# Altium schematic symbol library C0603.SchLib: 35 symbols
Pins are listed as number, name and electrical type; pins without a type are passive.

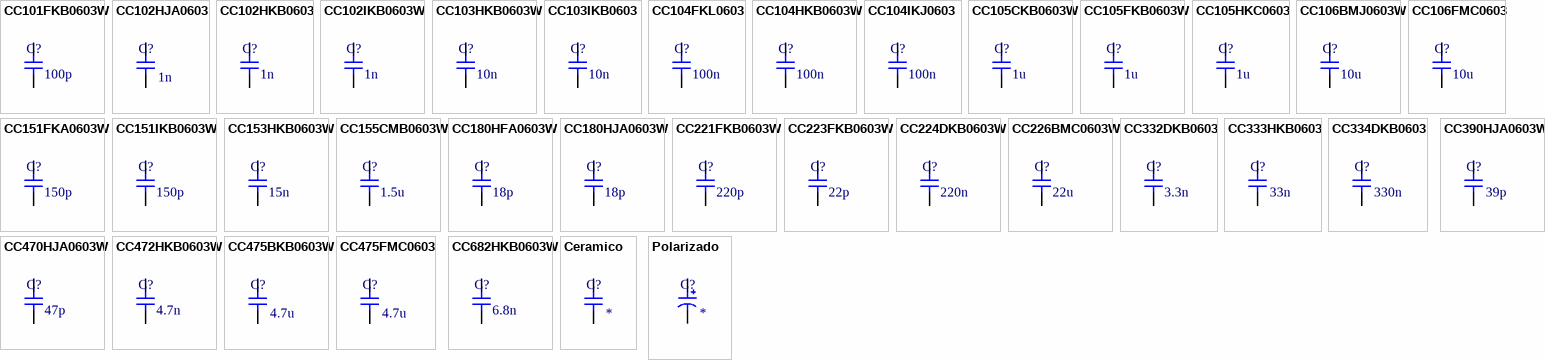
[diagram p0: symbols CC101FKB0603W to Polarizado]

## CC101FKB0603W
designator C?  value 100p
100 pF ±10% 25V Ceramic Capacitor X7R 0603 (1608 Metric); Manufacturer Part Number: 06033C101KAT2A; Manufacturer: AVX Corporation; Working Temperature: -55°C ~ 125°C; Short Description: CAP CER 100PF 25V X7R 0603; Power: NC; Ratings: REACH, ROHS3; Type: MLCC; Temperature Coefficient: X7R; Mounting: SMT; Frequency: NC; Alternate Part Number 1: *; Alternate Part Number 2: *; Tolerance: ±10%; Current: NC; Revision Date: 02/08/21; Package Reference: 0603; Voltage: 25V
footprint C0603 (Footprint not found)
pins: 1, 2

## CC102HJA0603
designator C?  value 1n
1 nF ±5% 50V Ceramic Capacitor C0G, NP0 0603 (1608 Metric); Manufacturer Part Number: CL10C102JB81PNC; Manufacturer: Samsung Electro-Mechanics; Working Temperature: -55°C ~ 125°C; Short Description: CAP CER 1000PF 50V C0G/NP0 0603; Power: NC; Type: MLCC; Temperature Coefficient: C0G, NP0; Mounting: SMT; Ratings: AEC-Q200; Frequency: NC; Alternate Part Number 1: *; Alternate Part Number 2: *; Tolerance: ±5%; Current: NC; Revision Date: 17/09/21; Package Reference: 0603; Voltage: 50V
footprint C0603 (Footprint not found)
pins: 1, 2

## CC102HKB0603
designator C?  value 1n
1 nF ±10% 50V Ceramic Capacitor X7R 0603 (1608 Metric); Manufacturer Part Number: GCM188R71H102KA37D; Manufacturer: Murata Electronics; Working Temperature: -55°C ~ 125°C; Short Description: CAP CER 1000PF 50V X7R 0603; Power: NC; Ratings: REACH, ROHS3, AEC-Q200; Type: MLCC; Temperature Coefficient: X7R; Mounting: SMT; Frequency: NC; Alternate Part Number 1: *; Alternate Part Number 2: *; Tolerance: ±10%; Current: NC; Revision Date: 02/08/21; Package Reference: 0603; Voltage: 50V
footprint C0603 (Footprint not found)
pins: 1, 2

## CC102IKB0603W
designator C?  value 1n
1 nF ±10% 100V Ceramic Capacitor X7R 0603 (1608 Metric); Manufacturer Part Number: CL10B102KC8NNNC; Manufacturer: Samsung Electro-Mechanics; Working Temperature: -55°C ~ 125°C; Short Description: CAP CER 1000PF 100V X7R 0603; Power: NC; Ratings: REACH, ROHS3; Type: MLCC; Temperature Coefficient: X7R; Mounting: SMT; Frequency: NC; Alternate Part Number 1: *; Alternate Part Number 2: *; Tolerance: ±10%; Current: NC; Revision Date: 02/08/21; Package Reference: 0603; Voltage: 100V
footprint C0603 (Footprint not found)
pins: 1, 2

## CC103HKB0603W
designator C?  value 10n
10 nF ±10% 50V Ceramic Capacitor X7R 0603 (1608 Metric); Manufacturer Part Number: C0603C103K5RACTU; Manufacturer: KEMET; Working Temperature: -55°C ~ 125°C; Short Description: CAP CER 10000PF 50V X7R 0603; Power: NC; Ratings: REACH, ROHS3; Type: MLCC; Temperature Coefficient: X7R; Mounting: SMT; Frequency: NC; Alternate Part Number 1: *; Alternate Part Number 2: *; Tolerance: ±10%; Current: NC; Revision Date: 02/08/21; Package Reference: 0603; Voltage: 50V
footprint C0603 (Footprint not found)
pins: 1, 2

## CC103IKB0603
designator C?  value 10n
10 nF ±10% 100V Ceramic Capacitor X7R 0603 (1608 Metric); Manufacturer Part Number: CGA3E2X7R2A103K080AA; Manufacturer: TDK Corporation; Working Temperature: -55°C ~ 125°C; Short Description: CAP CER 10000PF 100V X7R 0603; Power: NC; Ratings: REACH, ROHS3; Type: MLCC; Temperature Coefficient: X7R; Mounting: SMT; Frequency: NC; Alternate Part Number 1: *; Alternate Part Number 2: *; Tolerance: ±10%; Current: NC; Revision Date: 02/08/21; Package Reference: 0603; Voltage: 100V
footprint C0603 (Footprint not found)
pins: 1, 2

## CC104FKL0603
designator C?  value 100n  (hidden comment: CC104FKL0603)
100 nF ±10% 25V Ceramic Capacitor X8R 0603 (1608 Metric); Manufacturer Part Number: C1608X8R1E104K080AA; Manufacturer: TDK Corporation; Working Temperature: -55°C ~ 150°C; Short Description: CAP CER 0.1UF 25V X8R 0603; Power: NC; Ratings: REACH, ROHS3; Type: MLCC; Voltage: 50V; Temperature Coefficient: X8R; Mounting: SMT; Frequency: NC; Alternate Part Number 1: *; Alternate Part Number 2: *; Tolerance: ±10%; Current: NC; Revision Date: 02/08/21; Package Reference: 0603
footprint C0603
pins: 1, 2

## CC104HKB0603W
designator C?  value 100n
100 nF ±10% 50V Ceramic Capacitor X7R 0603 (1608 Metric); Manufacturer Part Number: C0603C104K5RACTU; Manufacturer: KEMET; Working Temperature: -55°C ~ 125°C; Short Description: CAP CER 0.1UF 50V X7R 0603; Power: NC; Ratings: REACH, ROHS3; Type: MLCC; Temperature Coefficient: X7R; Mounting: SMT; Frequency: NC; Alternate Part Number 1: *; Alternate Part Number 2: *; Tolerance: ±10%; Current: NC; Revision Date: 02/08/21; Package Reference: 0603; Voltage: 50V
footprint C0603 (Footprint not found)
pins: 1, 2

## CC104IKJ0603
designator C?  value 100n
100 nF ±10% 100V Ceramic Capacitor X7S 0603 (1608 Metric); Manufacturer Part Number: CGA3E3X7S2A104K080AB; Manufacturer: TDK Corporation; Working Temperature: -55°C ~ 125°C; Short Description: CAP CER 0.1UF 100V X7S 0603; Power: NC; Ratings: REACH, ROHS3, AEC-Q200; Type: MLCC; Temperature Coefficient: X7S; Mounting: SMT; Frequency: NC; Alternate Part Number 1: *; Alternate Part Number 2: *; Tolerance: ±10%; Current: NC; Revision Date: 02/08/21; Package Reference: 0603; Voltage: 100V
footprint C0603 (Footprint not found)
pins: 1, 2

## CC105CKB0603W
designator C?  value 1u
1 µF ±10% 10V Ceramic Capacitor X7R 0603 (1608 Metric); Manufacturer Part Number: LMK107B7105KA-T; Alternate Part Number 2: CL10B105KP8NNNC; Manufacturer: Taiyo Yuden; Working Temperature: -55°C ~ 125°C; Short Description: CAP CER 1UF 10V X7R 0603; Power: NC; Ratings: REACH, ROHS3; Type: MLCC; Temperature Coefficient: X7R; Mounting: SMT; Frequency: NC; Alternate Part Number 1: *; Tolerance: ±10%; Current: NC; Revision Date: 12/11/21; Package Reference: 0603; Voltage: 10V
footprint C0603 (Footprint not found)
pins: 1, 2

## CC105FKB0603W
designator C?  value 1u
1 µF ±10% 25V Ceramic Capacitor X7R 0603 (1608 Metric); Manufacturer Part Number: C0603C105K3RACTU; Manufacturer: KEMET; Working Temperature: -55°C ~ 125°C; Short Description: CAP CER 1UF 25V X7R 0603; Power: NC; Ratings: REACH, ROHS3; Type: MLCC; Temperature Coefficient: X7R; Mounting: SMT; Frequency: NC; Alternate Part Number 1: *; Alternate Part Number 2: *; Tolerance: ±10%; Current: NC; Revision Date: 02/08/21; Package Reference: 0603; Voltage: 25V
footprint C0603 (Footprint not found)
pins: 1, 2

## CC105HKC0603
designator C?  value 1u
1 µF ±10% 50V Ceramic Capacitor X5R 0603 (1608 Metric); Manufacturer Part Number: CGA3E3X5R1H105K080AB; Manufacturer: TDK Corporation; Working Temperature: -55°C ~ 85°C; Short Description: CAP CER 1UF 50V X5R 0603; Power: NC; Ratings: REACH, ROHS3, AEC-Q200; Type: MLCC; Temperature Coefficient: X5R; Mounting: SMT; Frequency: NC; Alternate Part Number 1: *; Alternate Part Number 2: *; Tolerance: ±10%; Current: NC; Revision Date: 02/08/21; Package Reference: 0603; Voltage: 50V
footprint C0603 (Footprint not found)
pins: 1, 2

## CC106BMJ0603W
designator C?  value 10u
10 µF ±20% 6.3V Ceramic Capacitor X7S 0603 (1608 Metric); Manufacturer Part Number: C1608X7S0J106M080AC; Manufacturer: TDK Corporation; Working Temperature: -55°C ~ 125°C; Short Description: CAP CER 10UF 6.3V X7S 0603; Power: NC; Ratings: REACH, ROHS3; Type: MLCC; Temperature Coefficient: X7S; Mounting: SMT; Frequency: NC; Alternate Part Number 1: *; Alternate Part Number 2: *; Tolerance: ±20%; Current: NC; Revision Date: 02/08/21; Package Reference: 0603; Voltage: 6.3V
footprint C0603 (Footprint not found)
pins: 1, 2

## CC106FMC0603
designator C?  value 10u
10 µF ±20% 25V Ceramic Capacitor X5R 0603 (1608 Metric); Manufacturer Part Number: GRT188R61E106ME13D; Manufacturer: Murata Electronics; Working Temperature: -55°C ~ 85°C; Short Description: CAP CER 10UF 25V X5R 0603; Power: NC; Ratings: AEC-Q200, ROHS3; Type: MLCC; Temperature Coefficient: X5R; Mounting: SMT; Frequency: NC; Alternate Part Number 1: *; Alternate Part Number 2: *; Tolerance: ±20%; Current: NC; Revision Date: 18/04/23; Package Reference: 0603; Voltage: 25V
footprint C0603 (Footprint not found)
pins: 1, 2

## CC151FKA0603W
designator C?  value 150p
150 pF ±10% 25V Ceramic Capacitor C0G, NP0 0603 (1608 Metric); Manufacturer Part Number: C0603C151K3GACTU; Manufacturer: KEMET; Working Temperature: -55°C ~ 125°C; Temperature Coefficient: C0G/NP0; Short Description: CAP CER 150PF 25V C0G/NP0 0603; Power: NC; Ratings: REACH, ROHS3; Type: MLCC; Mounting: SMT; Frequency: NC; Alternate Part Number 1: *; Alternate Part Number 2: *; Tolerance: ±10%; Current: NC; Revision Date: 02/08/21; Package Reference: 0603; Voltage: 25V
footprint C0603 (Footprint not found)
pins: 1, 2

## CC151IKB0603W
designator C?  value 150p  (hidden comment: CC151IKB0603W)
150 pF ±10% 100V Ceramic Capacitor X7R 0603 (1608 Metric); Manufacturer Part Number: 885012206103; Manufacturer: Würth Elektronik; Working Temperature: -55°C ~ 125°C; Temperature Coefficient: C0G/NP0; Short Description: CAP CER 150PF 100V X7R 0603; Power: NC; Ratings: REACH, ROHS3; Type: MLCC; Mounting: SMT; Frequency: NC; Alternate Part Number 1: *; Alternate Part Number 2: *; Tolerance: ±10%; Current: NC; Revision Date: 02/08/21; Package Reference: 0603; Voltage: 100V
footprint C0603
pins: 1, 2

## CC153HKB0603W
designator C?  value 15n
15 nF ±10% 50V Ceramic Capacitor X7R 0603 (1608 Metric); Manufacturer Part Number: CL10B153KB8NNNC; Manufacturer: Samsung Electro-Mechanics; Working Temperature: -55°C ~ 125°C; Short Description: CAP CER 0.015UF 50V X7R 0603; Power: NC; Ratings: REACH, ROHS3; Type: MLCC; Temperature Coefficient: X7R; Mounting: SMT; Frequency: NC; Alternate Part Number 1: *; Alternate Part Number 2: *; Tolerance: ±10%; Current: NC; Revision Date: 02/08/21; Package Reference: 0603; Voltage: 50V
footprint C0603 (Footprint not found)
pins: 1, 2

## CC155CMB0603W
designator C?  value 1.5u
1.5 µF ±20% 10V Ceramic Capacitor X7R 0603 (1608 Metric); Manufacturer Part Number: C1608X7R1A155M080AC; Manufacturer: TDK Corporation; Working Temperature: -55°C ~ 125°C; Short Description: CAP CER 1.5UF 10V X7R 0603; Power: NC; Ratings: REACH, ROHS3; Type: MLCC; Temperature Coefficient: X7R; Mounting: SMT; Frequency: NC; Alternate Part Number 1: *; Alternate Part Number 2: *; Tolerance: ±20%; Current: NC; Revision Date: 02/08/21; Package Reference: 0603; Voltage: 10V
footprint C0603 (Footprint not found)
pins: 1, 2

## CC180HFA0603W
designator C?  value 18p
18 pF ±1% 50V Ceramic Capacitor C0G, NP0 0603 (1608 Metric); Manufacturer Part Number: CL10C180FB8NNNC; Manufacturer: Samsung Electro-Mechanics; Working Temperature: -55°C ~ 125°C; Temperature Coefficient: C0G/NP0; Short Description: CAP CER 18PF 50V C0G/NP0 0603; Power: NC; Ratings: REACH, ROHS3; Type: MLCC; Mounting: SMT; Frequency: NC; Alternate Part Number 1: *; Alternate Part Number 2: *; Tolerance: ±1%; Current: NC; Revision Date: 02/08/21; Package Reference: 0603; Voltage: 50V
footprint C0603 (Footprint not found)
pins: 1, 2

## CC180HJA0603W
designator C?  value 18p
18 pF ±5% 50V Ceramic Capacitor C0G, NP0 0603 (1608 Metric); Manufacturer Part Number: C0603C180J5GACTU; Manufacturer: KEMET; Working Temperature: -55°C ~ 125°C; Temperature Coefficient: C0G/NP0; Short Description: CAP CER 18PF 50V C0G/NP0 0603; Power: NC; Ratings: REACH, ROHS3; Type: MLCC; Mounting: SMT; Frequency: NC; Alternate Part Number 1: *; Alternate Part Number 2: *; Tolerance: ±5%; Current: NC; Revision Date: 02/08/21; Package Reference: 0603; Voltage: 50V
footprint C0603 (Footprint not found)
pins: 1, 2

## CC221FKB0603W
designator C?  value 220p
220 pF ±10% 25V Ceramic Capacitor X7R 0603 (1608 Metric); Manufacturer Part Number: C0603C221K3RACTU; Manufacturer: KEMET; Working Temperature: -55°C ~ 125°C; Short Description: CAP CER 220PF 25V X7R 0603; Power: NC; Ratings: REACH, ROHS3; Type: MLCC; Temperature Coefficient: X7R; Mounting: SMT; Frequency: NC; Alternate Part Number 1: *; Alternate Part Number 2: *; Tolerance: ±10%; Current: NC; Revision Date: 02/08/21; Package Reference: 0603; Voltage: 25V
footprint C0603 (Footprint not found)
pins: 1, 2

## CC223FKB0603W
designator C?  value 22p
0.022 µF ±10% 25V Ceramic Capacitor X7R 0603 (1608 Metric); Manufacturer Part Number: ECJ-1VB1E223K; Alternate Part Number 1: C0603C223K3RAC; Manufacturer: Panasonic Electronic Components; Working Temperature: -55°C ~ 125°C; Short Description: CAP CER 0.022UF 25V X7R 0603; Power: NC; Temperature Coefficient: X7R; Mounting: SMT; Ratings: -; Frequency: NC; Alternate Part Number 2: *; Tolerance: ±10%; Current: NC; Revision Date: 07/11/22; Package Reference: 0603; Voltage: 25V
footprint C0603 (Footprint not found)
pins: 1, 2

## CC224DKB0603W
designator C?  value 220n
220 nF ±10% 16V Ceramic Capacitor X7R 0603 (1608 Metric); Manufacturer Part Number: C1608X7R1C224K080AC; Manufacturer: TDK Corporation; Working Temperature: -55°C ~ 125°C; Short Description: CAP CER 0.22UF 16V X7R 0603; Power: NC; Ratings: REACH, ROHS3; Type: MLCC; Temperature Coefficient: X7R; Mounting: SMT; Frequency: NC; Alternate Part Number 1: *; Alternate Part Number 2: *; Tolerance: ±10%; Current: NC; Revision Date: 02/08/21; Package Reference: 0603; Voltage: 16V
footprint C0603 (Footprint not found)
pins: 1, 2

## CC226BMC0603W
designator C?  value 22u
22 µF ±20% 6.3V Ceramic Capacitor X5R 0603 (1608 Metric); Manufacturer Part Number: C1608X5R0J226M080AC; Manufacturer: TDK Corporation; Working Temperature: -55°C ~ 85°C; Short Description: CAP CER 22UF 6.3V X5R 0603; Power: NC; Ratings: REACH, ROHS3; Type: MLCC; Temperature Coefficient: X5R; Mounting: SMT; Frequency: NC; Alternate Part Number 1: *; Alternate Part Number 2: *; Tolerance: ±20%; Current: NC; Revision Date: 02/08/21; Package Reference: 0603; Voltage: 6.3V
footprint C0603 (Footprint not found)
pins: 1, 2

## CC332DKB0603
designator C?  value 3.3n
3.3 nF ±10% 16V Ceramic Capacitor X7R 0603 (1608 Metric); Manufacturer Part Number: C0603C332K4RACAUTO; Manufacturer: KEMET; Working Temperature: -55°C ~ 125°C; Short Description: CAP CER 3300PF 16V X7R 0603; Power: NC; Ratings: REACH, ROHS3, AEC-Q200; Type: MLCC; Temperature Coefficient: X7R; Mounting: SMT; Frequency: NC; Alternate Part Number 1: *; Alternate Part Number 2: *; Tolerance: ±10%; Current: NC; Revision Date: 02/08/21; Package Reference: 0603; Voltage: 16V
footprint C0603 (Footprint not found)
pins: 1, 2

## CC333HKB0603
designator C?  value 33n
33 nF ±10% 50V Ceramic Capacitor X7R 0603 (1608 Metric); Manufacturer Part Number: GCM188R71H333KA55D; Manufacturer: Murata Electronics; Working Temperature: -55°C ~ 125°C; Short Description: CAP CER 0.033UF 50V X7R 0603; Power: NC; Ratings: REACH, ROHS3, AEC-Q200; Type: MLCC; Temperature Coefficient: X7R; Mounting: SMT; Frequency: NC; Alternate Part Number 1: *; Alternate Part Number 2: *; Tolerance: ±10%; Current: NC; Revision Date: 02/08/21; Package Reference: 0603; Voltage: 50V
footprint C0603 (Footprint not found)
pins: 1, 2

## CC334DKB0603
designator C?  value 330n
330 nF ±10% 16V Ceramic Capacitor X7R 0603 (1608 Metric); Manufacturer Part Number: CGA3E1X7R1C334K; Manufacturer: TDK Corporation; Working Temperature: -55°C ~ 125°C; Short Description: CAP CER 0.33UF 16V X7R 0603; Power: NC; Ratings: REACH, ROHS3, AEC-Q200; Type: MLCC; Temperature Coefficient: X7R; Mounting: SMT; Frequency: NC; Alternate Part Number 1: *; Alternate Part Number 2: *; Tolerance: ±10%; Current: NC; Revision Date: 02/08/21; Package Reference: 0603; Voltage: 16V
footprint C0603 (Footprint not found)
pins: 1, 2

## CC390HJA0603W
designator C?  value 39p
39 pF ±5% 50V Ceramic Capacitor C0G, NP0 0603 (1608 Metric); Manufacturer Part Number: C0603C390J5GACTU; Manufacturer: KEMET; Working Temperature: -55°C ~ 125°C; Temperature Coefficient: C0G/NP0; Short Description: CAP CER 39PF 50V C0G/NP0 0603; Power: NC; Ratings: REACH, ROHS3, AEC-Q200; Type: MLCC; Mounting: SMT; Frequency: NC; Alternate Part Number 1: *; Alternate Part Number 2: *; Tolerance: ±5%; Current: NC; Revision Date: 02/08/21; Package Reference: 0603; Voltage: 50V
footprint C0603 (Footprint not found)
pins: 1, 2

## CC470HJA0603W
designator C?  value 47p
47 pF ±5% 50V Ceramic Capacitor C0G, NP0 0603 (1608 Metric); Manufacturer Part Number: GRM1885C1H470JA01D; Manufacturer: Murata Electronics; Working Temperature: -55°C ~ 125°C; Temperature Coefficient: C0G/NP0; Short Description: CAP CER 47PF 50V C0G/NP0 0603; Power: NC; Ratings: REACH, ROHS3; Type: MLCC; Mounting: SMT; Frequency: NC; Alternate Part Number 1: *; Alternate Part Number 2: *; Tolerance: ±5%; Current: NC; Revision Date: 02/08/21; Package Reference: 0603; Voltage: 50V
footprint C0603 (Footprint not found)
pins: 1, 2

## CC472HKB0603W
designator C?  value 4.7n
4.7 nF ±10% 50V Ceramic Capacitor X7R 0603 (1608 Metric); Manufacturer Part Number: C0603C472K5RACTU; Manufacturer: KEMET; Working Temperature: -55°C ~ 125°C; Short Description: CAP CER 4700PF 50V X7R 0603; Power: NC; Ratings: REACH, ROHS3; Type: MLCC; Temperature Coefficient: X7R; Mounting: SMT; Frequency: NC; Alternate Part Number 1: *; Alternate Part Number 2: *; Tolerance: ±10%; Current: NC; Revision Date: 02/08/21; Package Reference: 0603; Voltage: 50V
footprint C0603 (Footprint not found)
pins: 1, 2

## CC475BKB0603W
designator C?  value 4.7u
4.7 µF ±10% 6.3V Ceramic Capacitor X7R 0603 (1608 Metric); Manufacturer Part Number: CL10B475KQ8NQNC; Manufacturer: Samsung Electro-Mechanics; Working Temperature: -55°C ~ 125°C; Short Description: CAP CER 4.7UF 6.3V X7R 0603; Power: NC; Ratings: REACH, ROHS3; Type: MLCC; Temperature Coefficient: X7R; Mounting: SMT; Frequency: NC; Alternate Part Number 1: *; Alternate Part Number 2: *; Tolerance: ±10%; Current: NC; Revision Date: 02/08/21; Package Reference: 0603; Voltage: 6.3V
footprint C0603 (Footprint not found)
pins: 1, 2

## CC475FMC0603
designator C?  value 4.7u
4.7 µF ±10% 25V Ceramic Capacitor X5R 0603 (1608 Metric); Manufacturer Part Number: GRT188R61E475KE13D; Manufacturer: Murata Electronics; Working Temperature: -55°C ~ 85°C; Temperature Coefficient: X7R; Short Description: CAP CER 4.7UF 25V X5R 0603; Power: NC; Ratings: AEC-Q200, ROHS3; Type: MLCC; Mounting: SMT; Frequency: NC; Alternate Part Number 1: *; Alternate Part Number 2: *; Tolerance: ±10%; Current: NC; Revision Date: 18/04/23; Package Reference: 0603; Voltage: 25V
footprint C0603 (Footprint not found)
pins: 1, 2

## CC682HKB0603W
designator C?  value 6.8n
6.8 nF ±10% 50V Ceramic Capacitor X7R 0603 (1608 Metric); Manufacturer Part Number: C0603C682K5RACTU; Manufacturer: KEMET; Working Temperature: -55°C ~ 125°C; Short Description: CAP CER 6800PF 50V X7R 0603; Power: NC; Ratings: REACH, ROHS3; Type: MLCC; Temperature Coefficient: X7R; Mounting: SMT; Frequency: NC; Alternate Part Number 1: *; Alternate Part Number 2: *; Tolerance: ±10%; Current: NC; Revision Date: 02/08/21; Package Reference: 0603; Voltage: 50V
footprint C0603 (Footprint not found)
pins: 1, 2

## Ceramico
designator C?
Power: NC; Manufacturer Part Number: *; Working Temperature: *; Temperature Coefficient: *; Mounting: SMT; Short Description: *; Ratings: *; Type: *; Frequency: NC; Alternate Part Number 1: *; Alternate Part Number 2: *; Manufacturer: *; Tolerance: *; Current: NC; Revision Date: 02/08/21; Package Reference: 0603; Voltage: *; Value: *
footprint C0603 (Footprint not found)
pins: 1, 2

## Polarizado
designator C?
Power: NC; Manufacturer Part Number: *; Working Temperature: *; Temperature Coefficient: *; Mounting: SMT; Short Description: *; Ratings: *; Type: *; Frequency: NC; Alternate Part Number 1: *; Alternate Part Number 2: *; Manufacturer: *; Tolerance: *; Current: NC; Revision Date: 02/08/21; Package Reference: 0603; Voltage: *; Value: *
footprint C0603 (Footprint not found)
pins: 1, 2